# Altium schematic symbol library R0.SCHLIB: 92 symbols (part 2 of 2)
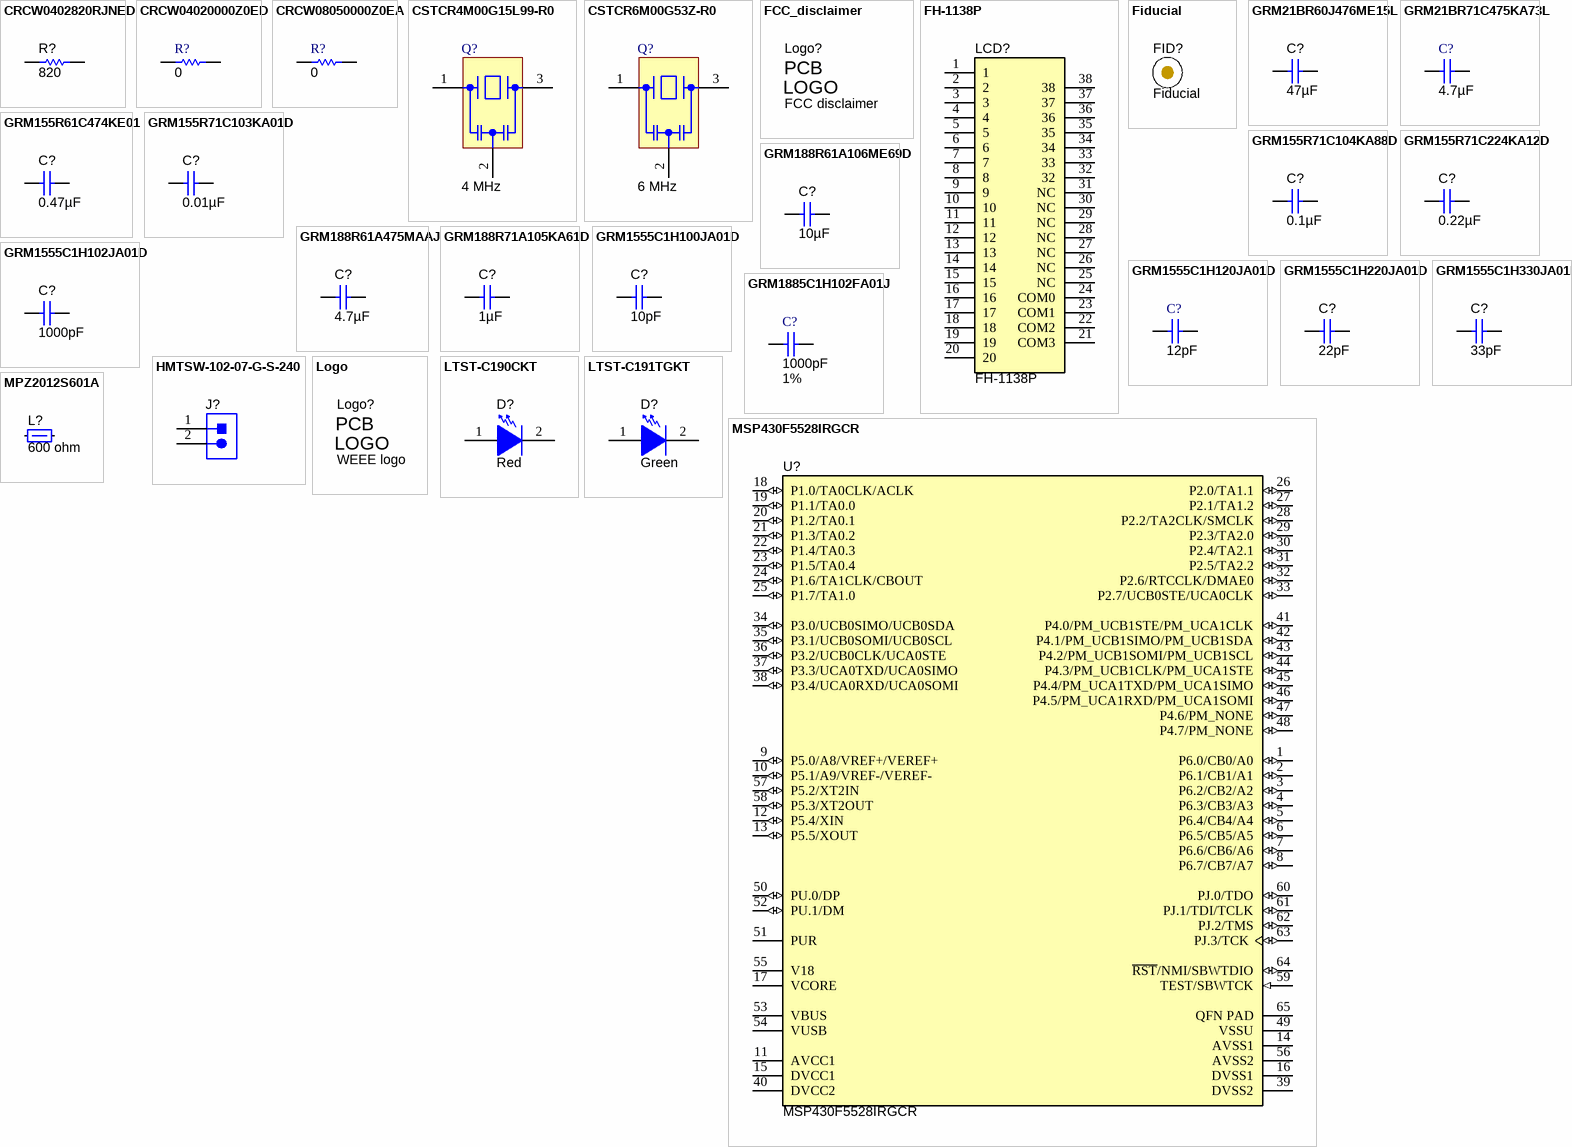
[diagram p4: symbols CRCW0402820RJNED to MSP430F5528IRGCR]

## GRM188R61A475MAAJ
designator C?  ValueDisplayed: 4.7µF  (hidden comment: GRM188R61A475MAAJ)
CAP, CERM, 4.7 µF, 10 V, +/- 20%, X5R, 0603; Manufacturer: MuRata; Polarized: N; CompType: Capacitor; Value: 4.7uF; U/M: EA; Cap_F: 0.0000047; Tolerance_%: 20; Value1: Unknown; VDC_V: 10; Value2: 10V; TaMin_C: -55; TaMax_C: 85; Cap_Case: 0603; AEC Category: Q200; SymbolVersion: 2008-07-09; PartNumber: GRM188R61A475MAAJ; PackageReference: 0603; RoHS: Y; MountType: SMT; Technology: Ceramic; TempCo: X5R; Published: 2008-06-19; Publisher: Texas Instruments; LatestRevisionDate: 2016-03-01; ComponentLink1Description: Datasheet link; ComponentLink1URL: http://psearch.en.murata.com/capacitor/product/GRM188R61A475MAAJ%23.pdf; AEC Qualified: N; AEC Grade: N/A
signal-integrity model Cap
simulation model Cap
footprint 0603
footprint 0603M
footprint 0603L
footprint 0603_HV
footprint 0603S
pins: 1, 2

## GRM188R71A105KA61D
designator C?  ValueDisplayed: 1µF  (hidden comment: GRM188R71A105KA61D)
CAP, CERM, 1 µF, 10 V, +/- 10%, X7R, 0603; Manufacturer: MuRata; Polarized: N; CompType: Capacitor; Value: 1uF; U/M: EA; Cap_F: 0.000001; Tolerance_%: 10; ESR_ohm: 0.011; Value1: 0.011 ohm; Value2: 10V; TaMin_C: -55; TaMax_C: 125; Cap_Case: 0603; SizeArea_mm2: 1.28; SizeAreaWB_mm2: 4.68; SizeX_mm: 1.6; SizeY_mm: 0.8; SizeZ_mm: 1; AEC Category: Q200; SymbolVersion: 2008-07-09; PartNumber: GRM188R71A105KA61D; PackageReference: 0603; RoHS: Y; VDC_V: 10; MountType: SMT; Technology: Ceramic; TempCo: X7R; Published: 2008-06-19; Publisher: Texas Instruments; LatestRevisionDate: 2016-05-21; ComponentLink1Description: Datasheet link; ComponentLink1URL: http://search.murata.co.jp/Ceramy/PnsearchViewAction.do?HnOFG=ON&HnNFG=ON&SEL_CNT=50&sLang=en&sKey=GRM188R71A105KA61D&x=9&y=9&search=startwith; Supplier 1: Digi-Key; Supplier Part Number 1: 490-3899-1-ND; Supplier 2: Mouser; Supplier Part Number 2: 81-GRM188R71A105KA1D; Supplier 3: Farnell; Supplier Part Number 3: 1845766; AEC Qualified: ?
signal-integrity model Cap
simulation model Cap
footprint 0603
footprint 0603M
footprint 0603L
footprint 0603_HV
footprint 0603S
pins: 1, 2

## GRM1555C1H100JA01D
designator C?  ValueDisplayed: 10pF  (hidden comment: GRM1555C1H100JA01D)
CAP, CERM, 10 pF, 50 V, +/- 5%, C0G/NP0, 0402; Manufacturer: MuRata; Polarized: N; CompType: Capacitor; Value: 10pF; U/M: EA; Cap_F: 0.00000000001; Tolerance_%: 5; Value1: Unknown; VDC_V: 50; Value2: 50V; TaMin_C: -55; TaMax_C: 125; Cap_Case: 0402; SymbolVersion: 2008-07-09; PartNumber: GRM1555C1H100JA01D; PackageReference: 0402; RoHS: Y; MountType: SMT; Technology: Ceramic; TempCo: C0G/NP0; Published: 2008-06-19; Publisher: Texas Instruments; LatestRevisionDate: 2014-07-30; ComponentLink1Description: Datasheet link; ComponentLink1URL: http://search.murata.co.jp/Ceramy/PnsearchViewAction.do?HnOFG=ON&HnNFG=ON&SEL_CNT=50&sLang=en&sKey=GRM1555C1H100JA01D&x=9&y=9&search=startwith; Supplier 1: Mouser; Supplier Part Number 1: 81-GRM1555C1H100JA1D
signal-integrity model Cap
simulation model Cap
footprint 0402
footprint 0402M
footprint 0402L
footprint 0402S
pins: 1, 2

## GRM1555C1H102JA01D
designator C?  ValueDisplayed: 1000pF  (hidden comment: GRM1555C1H102JA01D)
CAP, CERM, 1000 pF, 50 V, +/- 5%, C0G/NP0, 0402; Manufacturer: MuRata; Polarized: N; CompType: Capacitor; Value: 1000pF; U/M: EA; Cap_F: 0.000000001; Tolerance_%: 5; Value1: Unknown; VDC_V: 50; Value2: 50V; TaMin_C: -55; TaMax_C: 125; Cap_Case: 0402; SymbolVersion: 2008-07-09; PartNumber: GRM1555C1H102JA01D; PackageReference: 0402; RoHS: Y; MountType: SMT; Technology: Ceramic; TempCo: C0G/NP0; Published: 2008-06-19; Publisher: Texas Instruments; LatestRevisionDate: 2014-07-30; ComponentLink1Description: Datasheet link; ComponentLink1URL: http://search.murata.co.jp/Ceramy/PnsearchViewAction.do?HnOFG=ON&HnNFG=ON&SEL_CNT=50&sLang=en&sKey=GRM1555C1H102JA01D&x=9&y=9&search=startwith; Supplier 1: Digi-Key; Supplier Part Number 1: 490-3244-1-ND; Supplier 2: Mouser; Supplier Part Number 2: 81-GRM1555C1H102JA1D; Supplier 3: Farnell; Supplier Part Number 3: 8819556
signal-integrity model Cap
simulation model Cap
footprint 0402
footprint 0402M
footprint 0402L
footprint 0402S
pins: 1, 2

## GRM1555C1H120JA01D
designator C?  ValueDisplayed: 12pF  (hidden comment: GRM1555C1H120JA01D)
CAP, CERM, 12 pF, 50 V, +/- 5%, C0G/NP0, 0402; Manufacturer: MuRata; Value: 12pF; Polarized: N; CompType: Capacitor; U/M: EA; Cap_F: 0.000000000012; Tolerance_%: 5; Value1: Unknown; VDC_V: 50; Value2: 50V; TaMin_C: -55; TaMax_C: 125; Cap_Case: 0402; AEC Category: Q200; Published: 2008-06-19; LatestRevisionDate: 2016-04-09; PackageReference: 0402; Publisher: Texas Instruments; SymbolVersion: 2008-07-09; PartNumber: GRM1555C1H120JA01D; RoHS: Y; MountType: SMT; Technology: Ceramic; TempCo: C0G/NP0; ComponentLink1Description: Datasheet link; ComponentLink1URL: http://search.murata.co.jp/Ceramy/PnsearchViewAction.do?HnOFG=ON&HnNFG=ON&SEL_CNT=50&sLang=en&sKey=GRM1555C1H120JA01D&x=9&y=9&search=startwith; Supplier 1: Mouser; Supplier Part Number 1: 81-GRM1555C1H120JA1D; Supplier 2: Farnell; Supplier Part Number 2: 1828875; Supplier 3: Newark; Supplier Part Number 3: 14T3292; AEC Qualified: ?
signal-integrity model Cap
simulation model Cap
footprint 0402
footprint 0402M
footprint 0402L
footprint 0402S
pins: 1, 2

## GRM1555C1H220JA01D
designator C?  ValueDisplayed: 22pF  (hidden comment: GRM1555C1H220JA01D)
CAP, CERM, 22 pF, 50 V, +/- 5%, C0G/NP0, 0402; Manufacturer: MuRata; Polarized: N; CompType: Capacitor; Value: 22pF; U/M: EA; Cap_F: 0.000000000022; Tolerance_%: 5; Value1: Unknown; VDC_V: 50; Value2: 50V; TaMin_C: -55; TaMax_C: 125; Cap_Case: 0402; AEC Category: Q200; SymbolVersion: 2008-07-09; PartNumber: GRM1555C1H220JA01D; PackageReference: 0402; RoHS: Y; MountType: SMT; Technology: Ceramic; TempCo: C0G/NP0; Published: 2008-06-19; Publisher: Texas Instruments; LatestRevisionDate: 2016-03-01; ComponentLink1Description: Datasheet link; ComponentLink1URL: http://search.murata.co.jp/Ceramy/PnsearchViewAction.do?HnOFG=ON&HnNFG=ON&SEL_CNT=50&sLang=en&sKey=GRM1555C1H220JA01D&x=9&y=9&search=startwith; Supplier 1: Mouser; Supplier Part Number 1: 81-GRM1555C1H220JA1D; AEC Qualified: ?
signal-integrity model Cap
simulation model Cap
footprint 0402
footprint 0402M
footprint 0402L
footprint 0402S
pins: 1, 2

## GRM1555C1H330JA01D
designator C?  ValueDisplayed: 33pF  (hidden comment: GRM1555C1H330JA01D)
CAP, CERM, 33 pF, 50 V, +/-5%, C0G/NP0, 0402; Manufacturer: MuRata; Polarized: N; CompType: Capacitor; Value: 33pF; U/M: EA; Cap_F: 0.000000000033; Tolerance_%: 5; Value1: Unknown; VDC_V: 50; Value2: 50V; TaMin_C: -55; TaMax_C: 125; Cap_Case: 0402; SymbolVersion: 2008-07-09; PartNumber: GRM1555C1H330JA01D; PackageReference: 0402; RoHS: Y; MountType: SMT; Technology: Ceramic; TempCo: C0G/NP0; Published: 2008-06-19; Publisher: Texas Instruments; LatestRevisionDate: 2013-09-06; ComponentLink1Description: Datasheet link; ComponentLink1URL: http://search.murata.co.jp/Ceramy/PnsearchViewAction.do?HnOFG=ON&HnNFG=ON&SEL_CNT=50&sLang=en&sKey=GRM1555C1H330JA01D&x=9&y=9&search=startwith; Supplier 1: Mouser; Supplier Part Number 1: 81-GRM1555C1H330JA1D
signal-integrity model Cap
simulation model Cap
footprint 0402
footprint 0402M
footprint 0402L
footprint 0402S
pins: 1, 2

## GRM1885C1H102FA01J
designator C?  ValueDisplayed: 1000pF  Tolerance_%: 1%  (hidden comment: GRM1885C1H102FA01J)
CAP, CERM, 1000 pF, 50 V, +/- 1%, C0G/NP0, 0603; Manufacturer: MuRata; Value: 1000pF; Polarized: N; CompType: Capacitor; U/M: EA; Cap_F: 0.000000001; Value1: Unknown; VDC_V: 50; Value2: 50V; TaMin_C: -55; TaMax_C: 125; Cap_Case: 0603; AEC Category: Q200; Published: 2008-06-19; LatestRevisionDate: 2016-04-09; PackageReference: 0603; Publisher: Texas Instruments; SymbolVersion: 2008-07-09; PartNumber: GRM1885C1H102FA01J; RoHS: Y; MountType: SMT; Technology: Ceramic; TempCo: C0G/NP0; ComponentLink1Description: Datasheet link; ComponentLink1URL: http://search.murata.co.jp/Ceramy/image/img/A01X/G101/ENG/GRM1885C1H102FA01-01.pdf; Supplier 1: Digi-Key; Supplier Part Number 1: 490-6377-1-ND; Supplier 2: Mouser; Supplier Part Number 2: 81-GRM1885C1H102FA1J; AEC Qualified: ?
signal-integrity model Cap
simulation model Cap
footprint 0603
footprint 0603M
footprint 0603L
footprint 0603_HV
footprint 0603S
pins: 1, 2

## HMTSW-102-07-G-S-240
designator J?  (value not drawn)
Header, 100mil, 2x1, Gold, TH; Manufacturer: Samtec; SymbolCreator: a0412235; SymbolVersion: 2013-10-31; PartNumber: HMTSW-102-07-G-S-240; PackageReference: Header, 2.54mm, 2x1, TH; ClassName: Header; CompType: Header; RoHS: Y; MountType: TH; ComponentLink1Description: Datasheet URL; ComponentLink1URL: http://www.samtec.com/documents/webfiles/cpdf/HMTSW-XXX-XX-X-X-XXXX-XX-XX-MKT1.pdf; Publisher: Texas Instruments; LatestRevisionDate: 2016-12-09; Supplier 1: Digi-Key; Supplier Part Number 1: HMTSW-102-07-G-S-240-ND
footprint SAMTEC_HMTSW-102-07-G-S-240
pins: 1, 2
1 alternate drawing of the same symbol

## Logo
designator Logo?, comment WEEE logo  (no BOM)
Library Reference: WEEE logo; Lib Reference: WEEE logo; PartNumber: WEEE logo
footprint WEEE_Minimum (WEEElie bin)
text: PCB; LOGO

## LTST-C190CKT
designator D?  value Red  (hidden comment: LTST-C190CKT)
LED, Red, SMD; Manufacturer: Lite-On; Vf_V: 2; Value2: 2V; Io_A: 0.02; Tjmax_C: 85; Power_TotalModule: 0.0625; Value1: 0.0625W; U/M: EA; CompType: LED; PartNumber: LTST-C190CKT; SymbolVersion: 2008-12-08; MountType: SMT; RoHS: Y; PackageReference: Red LED, 1.6x0.8x0.8mm; Type: ?; Color: red; Published: 2008-07-11; Publisher: Texas Instruments; ComponentLink1URL: http://optoelectronics.liteon.com/en-us/api/DwonloadFileHandler.ashx?txtSpecNo=DS-22-98-0009&txtPartNo=LTST-C190CKT; ComponentLink1Description: Datasheet link; LatestRevisionDate: 2016-02-25; Supplier 1: Digi-Key; Supplier Part Number 1: 160-1181-1-ND; Supplier 2: Mouser; Supplier Part Number 2: 859-LTST-C190CKT
signal-integrity model Diode
footprint LED_LTST-C190_Red
pins: 1 A, 2 K

## LTST-C191TGKT
designator D?  value Green  (hidden comment: LTST-C191TGKT)
LED, Green, SMD; Manufacturer: Lite-On; Type: InGaN; Vf_V: 3.2; Value2: 3.2V; Io_A: 0.02; Value1: W; U/M: EA; CompType: LED; PartNumber: LTST-C191TGKT; SymbolVersion: 2008-12-08; MountType: SMT; RoHS: Y; PackageReference: LED_0603; Color: green; Published: 2008-07-11; Publisher: Texas Instruments; ComponentLink1URL: http://optoelectronics.liteon.com/upload/download/DS22-2000-300/S_110_LTST-C191TGKT.pdf; ComponentLink1Description: Datasheet link; LatestRevisionDate: 2016-04-10; Supplier 1: Digi-Key; Supplier Part Number 1: 160-1888-1-ND; Supplier 2: Mouser; Supplier Part Number 2: 859-LTST-C191TGKT
signal-integrity model Diode
footprint LTST-C191_Green
pins: 1 A, 2 K

## MPZ2012S601A
designator L?  value 600 ohm  (hidden comment: MPZ2012S601A)
Ferrite Bead, 600 ohm @ 100 MHz, 2 A, 0805; Manufacturer: TDK; Alternate PartNumber: MPZ2012S601AT000; Imax_A: 2; DCR_ohm: 0.1; Value1: 0.1 ohm; Value2: 2A; ZTyp@100MHz_Ohm: 600; CompType: Ferrite Bead; SymbolVersion: 2009-06-02; PartNumber: MPZ2012S601A; MountType: SMT; PackageReference: 0805; Published: 2014-04-30; Publisher: Texas Instruments; LatestRevisionDate: 2016-04-05; ComponentLink1Description: Datasheet link; ComponentLink1URL: http://www.tdk.co.jp/tefe02/e9413_mpz.pdf; RoHS: Y; Supplier 1: Digi-Key; Supplier Part Number 1: 445-2206-1-ND; Supplier 2: Mouser; Supplier Part Number 2: 810-MPZ2012S601A; Supplier 3: Farnell; Supplier Part Number 3: 1669753
footprint 0805_HV
footprint 0805_HV1
footprint 0805
footprint 0805M
footprint 0805L
pins: 1, 2

## MSP430F5528IRGCR
designator U?
Mixed Signal MicroController, RGC0064B; Manufacturer: Texas Instruments; Alternate PartNumber: MSP430F5528IRGCT; ADC: 12-bit SAR; ADC Channels: 16; Brown Out Reset: Yes; DMA: 3; Eco-Plan: Green (RoHS & no Sb/Br); Flash(KB): 128; Frequency(MHz): 25; GPIO: 47; Multiplier: 32x32; SRAM(B): 8192; SubFamily: 5 Series; Timers - 16-bit: 4; USB: 1; USCI_A (UART/LIN/IrDA/SPI): 2; SymbolCreator: Altium/a0412235; CompType: IC; U/M: EA; DatasheetVersion: SLAS590I; PackageVersion: 4204106/F; PackageReference: RGC0064B; PackageDescription: 64-Pin Plastic Flat Pack, Body 9 x 9 mm, Pitch 0.5 mm; Supplier 1: Digi-Key; Supplier Part Number 1: 296-27305-2-ND; Supplier 2: Digi-Key; Supplier Part Number 2: 296-27305-1-ND; Supplier 3: Digi-Key; Supplier Part Number 3: 296-27305-6-ND; Supplier 4: Newark; Supplier Part Number 4: 74R6473; Supplier 5: Mouser; Supplier Part Number 5: 595-MSP430F5527IPNR; Comparators: Yes; Real-Time Clock: Yes; SVS: Yes; Temp Sensor: Yes; USCI_B (I2C & SPI): 2; Watchdog: Yes; PartNumber: MSP430F5528IRGCR; ComponentLink1Description: Datasheet Link; ComponentLink1URL: http://www.ti.com/lit/ds/symlink/msp430f5528.pdf; SymbolVersion: 2016-1-28; MountType: SMT; RoHS: Y; Publisher: Texas Instruments; LatestRevisionDate: 2016-02-29; Alternate Manufacturer: Texas Instruments
footprint RGC0064B
footprint RGC0064B_NV
pins: 1 P6.0/CB0/A0 (io), 2 P6.1/CB1/A1 (io), 3 P6.2/CB2/A2 (io), 4 P6.3/CB3/A3 (io), 5 P6.4/CB4/A4 (io), 6 P6.5/CB5/A5 (io), 7 P6.6/CB6/A6 (io), 8 P6.7/CB7/A7 (io), 9 P5.0/A8/VREF+/VEREF+ (io), 10 P5.1/A9/VREF-/VEREF- (io), 11 AVCC1 (power) "Analog power supply", 12 P5.4/XIN (io), 13 P5.5/XOUT (io), 14 AVSS1 (power) "Analog ground supply", 15 DVCC1 (power) "Digital power supply", 16 DVSS1 (power) "Digital ground supply", 17 VCORE "Regulated core power supply output (internal use only, no external current loading)", 18 P1.0/TA0CLK/ACLK (io), 19 P1.1/TA0.0 (io), 20 P1.2/TA0.1 (io), 21 P1.3/TA0.2 (io), 22 P1.4/TA0.3 (io), 23 P1.5/TA0.4 (io), 24 P1.6/TA1CLK/CBOUT (io), 25 P1.7/TA1.0 (io), 26 P2.0/TA1.1 (io), 27 P2.1/TA1.2 (io), 28 P2.2/TA2CLK/SMCLK (io), 29 P2.3/TA2.0 (io), 30 P2.4/TA2.1 (io), 31 P2.5/TA2.2 (io), 32 P2.6/RTCCLK/DMAE0 (io), 33 P2.7/UCB0STE/UCA0CLK (io), 34 P3.0/UCB0SIMO/UCB0SDA (io), 35 P3.1/UCB0SOMI/UCB0SCL (io), 36 P3.2/UCB0CLK/UCA0STE (io), 37 P3.3/UCA0TXD/UCA0SIMO (io), 38 P3.4/UCA0RXD/UCA0SOMI (io), 39 DVSS2 (power) "Digital ground supply", 40 DVCC2 (power) "Digital power supply", 41 P4.0/PM_UCB1STE/PM_UCA1CLK (io), 42 P4.1/PM_UCB1SIMO/PM_UCB1SDA (io), 43 P4.2/PM_UCB1SOMI/PM_UCB1SCL (io), 44 P4.3/PM_UCB1CLK/PM_UCA1STE (io), 45 P4.4/PM_UCA1TXD/PM_UCA1SIMO (io), 46 P4.5/PM_UCA1RXD/PM_UCA1SOMI (io), 47 P4.6/PM_NONE (io), 48 P4.7/PM_NONE (io), 49 VSSU (power) "USB PHY ground supply", 50 PU.0/DP (io), 51 PUR "USB pullup resistor pin (open drain). The voltage level at the PUR pin is used to invoke the default USB BSL. Recommended 1-Mohm resistor to ground. See USB BSL for more information.", 52 PU.1/DM (io), 53 VBUS (power) "USB LDO input (connect to USB power source)", 54 VUSB (power) "USB LDO output", 55 V18 "USB regulated power (internal use only, no external current loading)", 56 AVSS2 (power) "Analog ground supply", 57 P5.2/XT2IN (io), 58 P5.3/XT2OUT (io), 59 TEST/SBWTCK (in), 60 PJ.0/TDO (io), 61 PJ.1/TDI/TCLK (io), 62 PJ.2/TMS (io), 63 PJ.3/TCK (io), 64 ~{RST}/NMI/SBWTDIO (io), 65 QFN PAD (power) "QFN package pad connection to VSS recommended."
1 alternate drawing of the same symbol

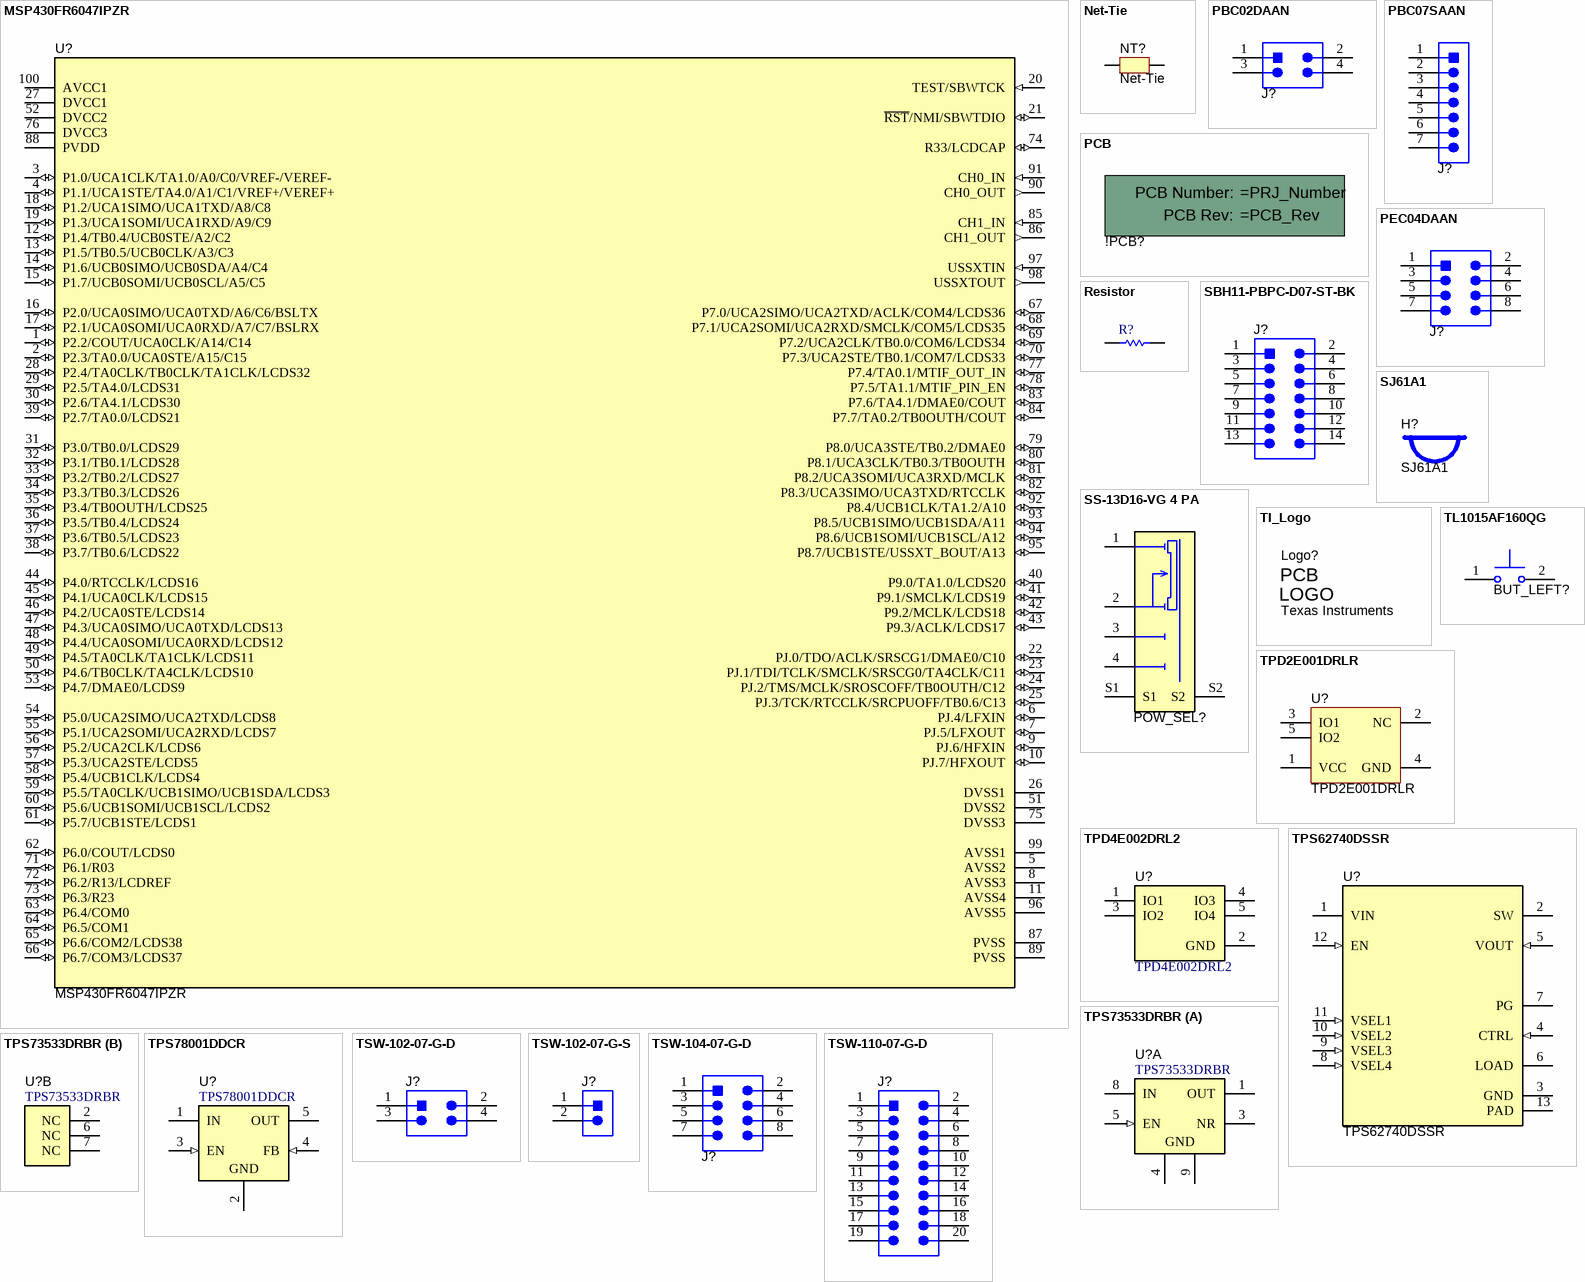
[diagram p2: symbols MSP430FR6047IPZR to TSW-110-07-G-D]

## MSP430FR6047IPZR
designator U?
Mixed-Signal Microcontroller, PZ0100A (LQFP-100); Manufacturer: Texas Instruments; SymbolCreator: Altium; SizeArea_mm2: 256; SizeAreaWB_mm2: 324; SizeX_mm: 16; SizeZ_mm: 1.6; CompType: IC; U/M: EA; SymbolVersion: 2016-11-29; PartNumber: MSP430FR6047IPZR; Alternate PartNumber: MSP430FR6047IPZ; PackageReference: PZ0100A; PackageDescription: LQFP-100; MountType: SMT; SizeY_mm: 16; ComponentLink1Description: Datasheet Link; ComponentLink1URL: https://sps06.itg.ti.com/sites/KMS/crossdivteams/altium/docs/ComponentDatasheets/SLASEB7_MSP430FR6047_Int.pdf; Publisher: Texas Instruments; LatestRevisionDate: 2016-11-30; Alternate Manufacturer: Texas Instruments
footprint PZ0100A_N
footprint PZ0100A_M
footprint PZ0100A_L
pins: 1 P2.2/COUT/UCA0CLK/A14/C14 (io), 2 P2.3/TA0.0/UCA0STE/A15/C15 (io), 3 P1.0/UCA1CLK/TA1.0/A0/C0/VREF-/VEREF- (io), 4 P1.1/UCA1STE/TA4.0/A1/C1/VREF+/VEREF+ (io), 5 AVSS2 (power), 6 PJ.4/LFXIN (io), 7 PJ.5/LFXOUT (io), 8 AVSS3 (power), 9 PJ.6/HFXIN (io), 10 PJ.7/HFXOUT (io), 11 AVSS4 (power), 12 P1.4/TB0.4/UCB0STE/A2/C2 (io), 13 P1.5/TB0.5/UCB0CLK/A3/C3 (io), 14 P1.6/UCB0SIMO/UCB0SDA/A4/C4 (io), 15 P1.7/UCB0SOMI/UCB0SCL/A5/C5 (io), 16 P2.0/UCA0SIMO/UCA0TXD/A6/C6/BSLTX (io), 17 P2.1/UCA0SOMI/UCA0RXD/A7/C7/BSLRX (io), 18 P1.2/UCA1SIMO/UCA1TXD/A8/C8 (io), 19 P1.3/UCA1SOMI/UCA1RXD/A9/C9 (io), 20 TEST/SBWTCK (in), 21 ~{RST}/NMI/SBWTDIO (io), 22 PJ.0/TDO/ACLK/SRSCG1/DMAE0/C10 (io), 23 PJ.1/TDI/TCLK/SMCLK/SRSCG0/TA4CLK/C11 (io), 24 PJ.2/TMS/MCLK/SROSCOFF/TB0OUTH/C12 (io), 25 PJ.3/TCK/RTCCLK/SRCPUOFF/TB0.6/C13 (io), 26 DVSS1 (power), 27 DVCC1 (power), 28 P2.4/TA0CLK/TB0CLK/TA1CLK/LCDS32 (io), 29 P2.5/TA4.0/LCDS31 (io), 30 P2.6/TA4.1/LCDS30 (io), 31 P3.0/TB0.0/LCDS29 (io), 32 P3.1/TB0.1/LCDS28 (io), 33 P3.2/TB0.2/LCDS27 (io), 34 P3.3/TB0.3/LCDS26 (io), 35 P3.4/TB0OUTH/LCDS25 (io), 36 P3.5/TB0.4/LCDS24 (io), 37 P3.6/TB0.5/LCDS23 (io), 38 P3.7/TB0.6/LCDS22 (io), 39 P2.7/TA0.0/LCDS21 (io), 40 P9.0/TA1.0/LCDS20 (io), 41 P9.1/SMCLK/LCDS19 (io), 42 P9.2/MCLK/LCDS18 (io), 43 P9.3/ACLK/LCDS17 (io), 44 P4.0/RTCCLK/LCDS16 (io), 45 P4.1/UCA0CLK/LCDS15 (io), 46 P4.2/UCA0STE/LCDS14 (io), 47 P4.3/UCA0SIMO/UCA0TXD/LCDS13 (io), 48 P4.4/UCA0SOMI/UCA0RXD/LCDS12 (io), 49 P4.5/TA0CLK/TA1CLK/LCDS11 (io), 50 P4.6/TB0CLK/TA4CLK/LCDS10 (io), 51 DVSS2 (power), 52 DVCC2 (power), 53 P4.7/DMAE0/LCDS9 (io), 54 P5.0/UCA2SIMO/UCA2TXD/LCDS8 (io), 55 P5.1/UCA2SOMI/UCA2RXD/LCDS7 (io), 56 P5.2/UCA2CLK/LCDS6 (io), 57 P5.3/UCA2STE/LCDS5 (io), 58 P5.4/UCB1CLK/LCDS4 (io), 59 P5.5/TA0CLK/UCB1SIMO/UCB1SDA/LCDS3 (io), 60 P5.6/UCB1SOMI/UCB1SCL/LCDS2 (io), 61 P5.7/UCB1STE/LCDS1 (io), 62 P6.0/COUT/LCDS0 (io), 63 P6.4/COM0 (io), 64 P6.5/COM1 (io), 65 P6.6/COM2/LCDS38 (io), 66 P6.7/COM3/LCDS37 (io), 67 P7.0/UCA2SIMO/UCA2TXD/ACLK/COM4/LCDS36 (io), 68 P7.1/UCA2SOMI/UCA2RXD/SMCLK/COM5/LCDS35 (io), 69 P7.2/UCA2CLK/TB0.0/COM6/LCDS34 (io), 70 P7.3/UCA2STE/TB0.1/COM7/LCDS33 (io), 71 P6.1/R03 (io), 72 P6.2/R13/LCDREF (io), 73 P6.3/R23 (io), 74 R33/LCDCAP (io), 75 DVSS3 (power), 76 DVCC3 (power), 77 P7.4/TA0.1/MTIF_OUT_IN (io), 78 P7.5/TA1.1/MTIF_PIN_EN (io), 79 P8.0/UCA3STE/TB0.2/DMAE0 (io), 80 P8.1/UCA3CLK/TB0.3/TB0OUTH (io), 81 P8.2/UCA3SOMI/UCA3RXD/MCLK (io), 82 P8.3/UCA3SIMO/UCA3TXD/RTCCLK (io), 83 P7.6/TA4.1/DMAE0/COUT (io), 84 P7.7/TA0.2/TB0OUTH/COUT (io), 85 CH1_IN (in), 86 CH1_OUT (out), 87 PVSS (power), 88 PVDD (power), 89 PVSS (power), 90 CH0_OUT (out), 91 CH0_IN (in), 92 P8.4/UCB1CLK/TA1.2/A10 (io), 93 P8.5/UCB1SIMO/UCB1SDA/A11 (io), 94 P8.6/UCB1SOMI/UCB1SCL/A12 (io), 95 P8.7/UCB1STE/USSXT_BOUT/A13 (io), 96 AVSS5 (power), 97 USSXTIN (in), 98 USSXTOUT (out), 99 AVSS1 (power), 100 AVCC1 (power)

## Net-Tie
designator NT?  (net tie, no BOM)
Single point connection between nets.; SymbolCreator: codlsc; SymbolVersion: 2009-07-01; MountType: SMT; PackageReference: N/A; Publisher: Texas Instruments; LatestRevisionDate: 2015-10-18; LatestRevisionNote: Added Alternate PartNumber and Alternate Manufacturer parameters to appropriate components.
footprint Net-Tie_10mil (10mil net tie, no solder mask opening, no solder paste)
footprint NetTie_1206 (1206 pads tied by 10mil copper trace which can be cut.  Part can be placed on pads.)
footprint Net-Tie_0805_HV
footprint NetTie_1206_NoOverlay (1206 pads tied by 10mil copper trace which can be cut.  Part can be placed on pads.)
footprint Net-Tie_0805_HV_NoOverlay (0805_HV pads tied by 10mil copper trace which can be cut.  An 0805 part can be placed on pads.)
footprint Net-Tie_10milWide_30milLong
footprint Net-Tie_20milWide_60milLong
footprint NetTie_0603
footprint NetTie_0402
footprint Net-Tie_50milWide_30milLong
pins: 1, 2

## PBC02DAAN
designator J?  (value not drawn)
Header, 2.54mm, 2x2, Gold, TH; Manufacturer: Sullins Connector Solutions; SymbolCreator: a0412235; Pitch_mm: 2.54; Gender: Male; Shrouded: N; Row_Count: 2; Current_A: 3; Voltage_V: 1800; Cert_UL: Y; SymbolVersion: 2013-10-31; PartNumber: PBC02DAAN; PackageReference: Header, 2.54mm, 2x2, TH; ClassName: Header; CompType: Header; RoHS: Y; MountType: TH; ComponentLink1Description: Datasheet URL; ComponentLink1URL: http://www.sullinscorp.com/catalogs/77_PAGE108-109_.100_MALE_HDR.pdf; Orientation: Vertical; PinCount: 4; RowSpacing_mm: 2.54; ContactFinish: Gold; Color: Black; Publisher: Texas Instruments; LatestRevisionDate: 2017-06-23; Supplier 1: Digi-Key; Supplier Part Number 1: S2011E-02-ND
footprint Sullins_PxC02DAAN
pins: 1, 2, 3, 4

## PBC07SAAN
designator J?  (value not drawn)
Header, 2.54 mm, 7x1, Gold, TH; Manufacturer: Sullins Connector Solutions; SymbolCreator: a0411947; Pitch_mm: 2.54; Gender: Male; Shrouded: N; Row_Count: 1; Current_A: 3; Voltage_V: 1800; Cert_UL: Y; SymbolVersion: 2013-12-22; PartNumber: PBC07SAAN; PackageReference: Header, 2.54 mm, 7x1, TH; ClassName: Header; CompType: Header; RoHS: Y; MountType: TH; ComponentLink1Description: Datasheet URL; ComponentLink1URL: http://www.sullinscorp.com/catalogs/77_PAGE108-109_.100_MALE_HDR.pdf; Orientation: Vertical; PinCount: 7; ContactFinish: Gold; Color: Black; Publisher: Texas Instruments; LatestRevisionDate: 2017-06-23; Supplier 1: Digi-Key; Supplier Part Number 1: S1011E-07-ND
footprint Sullins_xxC07SAAN
pins: 1, 2, 3, 4, 5, 6, 7

## PCB
designator !PCB?, comment Printed Circuit Board  (value not drawn)  (mechanical)
Manufacturer: Any; SymbolCreator: a0412235; CompType: PCB; SymbolVersion: 2012-05-30; PartNumber: =PRJ_Number; RoHS: O; MountType: N/A; Publisher: Texas Instruments; LatestRevisionDate: 2012-06-27; LatestRevisionNote: Initial Version; Alternate Manufacturer: -; Alternate PartNumber: -
1 alternate drawing of the same symbol
text: PCB Number:; PCB Rev:

## PEC04DAAN
designator J?  (value not drawn)
Header, 100mil, 4x2, Tin, TH; Manufacturer: Sullins Connector Solutions; SymbolCreator: a0411947; Pitch_mm: 2.54; Gender: Male; Shrouded: N; Row_Count: 2; Current_A: 3; Voltage_V: 1800; Cert_UL: Y; Green_Lifecycle: Not Set; Green_REACh: Incomplete; SymbolVersion: 2013-12-22; PartNumber: PEC04DAAN; PackageReference: Header, 4x2, 100mil, Tin; ClassName: Header; CompType: Header; RoHS: Y; MountType: TH; ComponentLink1Description: Datasheet URL; ComponentLink1URL: http://www.sullinscorp.com/catalogs/77_PAGE108-109_.100_MALE_HDR.pdf; Orientation: Vertical; PinCount: 8; RowSpacing_mm: 2.54; ContactFinish: Tin; Color: Black; Publisher: Texas Instruments; LatestRevisionDate: 2017-06-23; Supplier 1: Digi-Key; Supplier Part Number 1: S2012E-04-ND; Green_EU RoHS: Incomplete; Green_EU RoHS-2: Incomplete
footprint CONN_PEC04DAAN
pins: 1, 2, 3, 4, 5, 6, 7, 8

## Resistor
designator R?, comment Used in BOM report  (value not drawn)
RES, xxx ohm, x%, xW, [PackageReference]; CompType: Resistor; U/M: EA; LatestRevisionDate: 2015-10-18; PackageReference: Used in PnP output and some BOM reports; Publisher: Texas Instruments; SymbolVersion: 2009-05-29; PartNumber: Used in BOM report; Manufacturer: Used in BOM report; RoHS: Used in BOM report.  Use Y or N.; MountType: SMT or TH (used in PnP report); ComponentLink1Description: Datasheet Link; ComponentLink1URL: Paste URL for datasheet here; Alternate Manufacturer: -; Alternate PartNumber: -; LatestRevisionNote: Added Alternate PartNumber and Alternate Manufacturer parameters to appropriate components.
signal-integrity model Resistor
simulation model Resistor
footprint TBD
footprint 0201
footprint 0402
footprint 0603
footprint 0603_HV
footprint 0805
footprint 0805_HV
footprint 1206
footprint 1210
footprint 1812
footprint 2010
footprint 2512
footprint 0402S
pins: 1, 2

## SBH11-PBPC-D07-ST-BK
designator J?  (value not drawn)
Header (shrouded), 100 mil, 7x2, Gold, TH; Manufacturer: Sullins Connector Solutions; SymbolCreator: a0412235; SymbolVersion: 2013-12-22; PartNumber: SBH11-PBPC-D07-ST-BK; PackageReference: 7x2 Shrouded Header; CompType: Header; RoHS: Y; MountType: TH; ComponentLink1Description: Datasheet URL; ComponentLink1URL: http://www.sullinscorp.com/catalogs/145_11_SERIES,_.100_BOX_HEADER.pdf; Publisher: Texas Instruments; LatestRevisionDate: 2016-02-29; Supplier 1: Digi-Key; Supplier Part Number 1: S9170-ND
footprint CONN_SBH11-PBPC-D07-ST-BK
pins: 1, 2, 3, 4, 5, 6, 7, 8, 9, 10, 11, 12, 13, 14

## SJ61A1
designator H?
Bumpon, Cylindrical, 0.312 X 0.200, Black; Manufacturer: 3M; SymbolCreator: a0412235; Green_Lifecycle: Not Set; Green_REACh: Incomplete; SymbolVersion: 2012-03-04; CompType: Bumpon; PartNumber: SJ61A1; RoHS: Y; PackageReference: Black Bumpon; MountType: N/A; ComponentLink1Description: Datasheet Link; ComponentLink1URL: http://multimedia.3m.com/mws/mediawebserver?mwsId=66666UF6EVsSyXTtOxTXoxMtEVtQEVs6EVs6EVs6E666666--&fn=SJxxA1.pdf; Publisher: Texas Instruments; LatestRevisionDate: 2017-06-22; Supplier 1: Digi-Key; Supplier Part Number 1: SJ5746-0-ND; Supplier 2: Mouser; Supplier Part Number 2: 517-SJ-61A1; Green_EU RoHS: Incomplete; Green_EU RoHS-2: Incomplete
footprint Bumpon_SJ61A1

## SS-13D16-VG 4 PA
designator POW_SEL?  (value not drawn)
Switch, Slide, SP3T, On-On-On, 3 Pos, 0.3A, 30 VDC, TH; Manufacturer: C&K Components; SymbolCreator: Altium; VDC_V: 30; PositionCount: 3; CurrentRating_mA: 300; SymbolVersion: 2016-03-31; PartNumber: SS-13D16-VG 4 PA; MountType: TH; ComponentLink1Description: Datasheet Link; ComponentLink1URL: http://www.ck-components.com/80748/ss.pdf/; RoHS: Y; Circuit: SP3T; SwitchFunction: On-On-On; Orientation: Top Actuated; CompType: Switch; PackageReference: 12.6x4.3mm; Publisher: Texas Instruments; LatestRevisionDate: 2016-04-06; Supplier 1: Digi-Key; Supplier Part Number 1: CKN10371-ND; Supplier 2: Mouser; Supplier Part Number 2: 611-SS-13D16-VG4PA
footprint SW_SS-13D16-VG
pins: 1, 2, 3, 4, S1, S2

## TI_Logo
designator Logo?, comment Texas Instruments  (no BOM)
Texas Instrument Corporate Signature; SymbolCreator: codlsc; SymbolVersion: 2011-08-22; Published: 2009-03-03; Publisher: National Semiconductor; ClassName: Logo; LatestRevisionDate: 2011-10-25; LatestRevisionNote: Added ClassName of Logo.
footprint TI_Stacked_SolderMask_Medium
footprint TI_Stacked_SolderMask_Small
footprint TI_Stacked_Overlay_Medium
footprint TI_Stacked_Overlay_Small
footprint TI_Horizontal_SolderMask_Medium
footprint TI_Horizontal_SolderMask_Small
footprint TI_Horizontal_Overlay_Medium
footprint TI_Horizontal_Overlay_Small
footprint TI_Symbol_SolderMask_Small
footprint TI_Symbol_Overlay_Medium
footprint TI_Symbol_Overlay_Small
footprint TI_Symbol_SolderMask_Medium
text: PCB; LOGO

## TL1015AF160QG
designator BUT_LEFT?  (value not drawn)
Switch, Tactile, SPST-NO, 0.05A, 12V, SMT; Manufacturer: E-Switch; SymbolCreator: a0412235; VDC_V: 12; SwitchFunction: Off-Mom; PositionCount: 1; CurrentRating_mA: 50; SymbolVersion: 2012-10-29; MountType: SMT; RoHS: Y; PartNumber: TL1015AF160QG; PackageReference: Switch, 4.4x2x2.9 mm; ComponentLink1Description: Datasheet URL; ComponentLink1URL: http://spec.e-switch.com/P-J/P420000.pdf; CompType: Switch; Circuit: SPST-NO; Orientation: Top Actuated; Publisher: Texas Instruments; LatestRevisionDate: 2016-05-24; Supplier 1: Digi-Key; Supplier Part Number 1: EG4344CT-ND; Supplier 2: Mouser; Supplier Part Number 2: 612-TL1015AF; Supplier 3: Farnell; Supplier Part Number 3: 2292962
footprint SW_TL1015AF160QG
pins: 1, 2

## TPD2E001DRLR
designator U?
Low-Capacitance + / - 15 kV ESD-Protection Array for High-Speed Data Interfaces, 2 Channels, -40 to +85 degC, 5-pin SOT (DRL), Green (RoHS & no Sb/Br); Manufacturer: Texas Instruments; Alternate Manufacturer: None; Alternate PartNumber: Equivalent; Breakdown Voltage(Min)(V): 11; IEC 61000-4-2 Air-Gap(+/- kV): 15; IEC 61000-4-2 Contact(+/- kV): 8; IO Capacitance(Typ)(pF): 1.5; IO Leakage Current(nA): 1; SubFamily: ESD Solution; USB High Speed: TRUE; DatasheetVersion: SLLS684F; PackageVersion: revD, Aug-2007; PackageReference: DRL0005A; PackageDescription: 5-Pin Plastic Small Outline, Flat Lead 0.5 mm Pitch; Supplier 1: Digi-Key; Supplier Part Number 1: 296-21883-2-ND; Supplier 2: Digi-Key; Supplier Part Number 2: 296-21883-1-ND; Supplier 3: Digi-Key; Supplier Part Number 3: 296-21883-6-ND; Supplier 4: Farnell; Supplier Part Number 4: 1412055; Supplier 5: Newark; Supplier Part Number 5: 41M5840; Supplier 6: Mouser; Supplier Part Number 6: 595-TPD2E001DRLR; Eco-Plan: Green (RoHS & no Sb/Br); MountType: SMT; PartNumber: TPD2E001DRLR; ComponentLink1Description: Datasheet; ComponentLink1URL: http://www.ti.com/general/docs/lit/getliterature.tsp?genericPartNumber=TPD2E001&fileType=pdf; ComponentLink2Description: URL Link1; ComponentLink2URL: SamplesURL:http://www.ti.com/product/tpd2e001#samples
footprint DRL0005A (SOTFL, 5-Flat Leads, Body 1.2x1.6x0.6mm, Pitch 0.5mm, TI Recommended)
footprint DRL0005A_N (SOTFL, 5-Flat Leads, Body 1.2x1.6x0.6mm, Pitch 0.5mm, IPC Medium Density)
footprint DRL0005A_L (SOTFL, 5-Flat Leads, Body 1.2x1.6x0.6mm, Pitch 0.5mm, IPC High Density)
footprint DRL0005A_M (SOTFL, 5-Flat Leads, Body 1.2x1.6x0.6mm, Pitch 0.5mm, IPC Low Density)
pins: 1 VCC (power) "Power-supply input. Bypass VCC to GND with a 0.1-uF ceramic capacitor.", 2 NC "No connection. Not internally connected.", 3 IO1 "ESD-protected channel", 4 GND (power) "Ground", 5 IO2 "ESD-protected channel"

## TPD4E002DRL2
designator U?
Low-Capacitance Array with + / - 15 kV ESD Protection, 4 Channels, -40 to +85 degC, 5-pin SOT (DRL), Green (RoHS & no Sb/Br); Manufacturer: Texas Instruments; Alternate PartNumber: Equivalent; Breakdown Voltage(Min)(V): 6; IEC 61000-4-2 Air-Gap(+/- kV): 15; IO Capacitance(Typ)(pF): 11; IO Leakage Current(nA): 100; SubFamily: ESD Solution; DatasheetVersion: SLVS615D; PackageVersion: revD, Aug-2007; PackageReference: DRL0005A; PackageDescription: 5-Pin Plastic Small Outline, Flat Lead 0.5 mm Pitch; Supplier 1: Digi-Key; Supplier Part Number 1: 296-25866-2-ND; Supplier 2: Digi-Key; Supplier Part Number 2: 296-25866-1-ND; Supplier 3: Digi-Key; Supplier Part Number 3: 296-25866-6-ND; Supplier 4: Newark; Supplier Part Number 4: 69R0434; Supplier 5: Mouser; Supplier Part Number 5: 595-TPD4E002DRL2; Eco-Plan: Green (RoHS & no Sb/Br); IEC 61000-4-2 Contact(+/- kV): 15; MountType: SMT; PartNumber: TPD4E002DRL2; ComponentLink1Description: Datasheet; ComponentLink1URL: http://www.ti.com/general/docs/lit/getliterature.tsp?genericPartNumber=TPD4E002&fileType=pdf; ComponentLink2Description: URL Link1; ComponentLink2URL: SamplesURL:http://www.ti.com/product/tpd4e002#samples; Alternate Manufacturer: Texas Instruments
footprint DRL0005A (SOTFL, 5-Flat Leads, Body 1.2x1.6x0.6mm, Pitch 0.5mm, TI recommended)
pins: 1 IO1, 2 GND (power), 3 IO2, 4 IO3, 5 IO4

## TPS62740DSSR
designator U?
360nA IQ Step Down Converter for Low Power Applications, DSS0012A; Alternate PartNumber: TPS62740DSST; Manufacturer: Texas Instruments; SymbolCreator: Altium; SizeArea_mm2: 6; SizeAreaWB_mm2: 12; SizeX_mm: 3; SizeY_mm: 2; SizeZ_mm: 0.8; CompType: IC; U/M: EA; SymbolVersion: 2016-3-1; PartNumber: TPS62740DSSR; PackageReference: DSS0012A; PackageDescription: WSON-12; MountType: SMT; ComponentLink1Description: Datasheet Link; ComponentLink1URL: http://www.ti.com/lit/ds/symlink/tps62740.pdf; RoHS: Y; Publisher: Texas Instruments; LatestRevisionDate: 2016-05-19; Alternate Manufacturer: Texas Instruments
footprint DSS0012A
pins: 1 VIN (power), 2 SW (power), 3 GND (power), 4 CTRL (in), 5 VOUT (in), 6 LOAD (power), 7 PG (oc), 8 VSEL4 (in), 9 VSEL3 (in), 10 VSEL2 (in), 11 VSEL1 (in), 12 EN (in), 13 PAD (power)

## TPS73533DRBR
designator U?
Single Output High PSRR LDO, 500 mA, Fixed 3.3 V Output, 2.7 to 6.5 V Input, with Low IQ, 8-pin SON (DRB), -40 to 125 degC, Green (RoHS & no Sb/Br); Manufacturer: Texas Instruments; Alternate PartNumber: Equivalent; Accuracy(%): 2; Fixed Output Options(V): 3.3; Iout(Max)(A): 0.5; Iq(Typ)(mA): 0.04; SubFamily: Single Channel LDO; Vdo(Typ)(mV): 280; Vin(Max)(V): 6.5; Vin(Min)(V): 2.7; DatasheetVersion: SBVS087J; PackageVersion: 4203482-2/K; PackageReference: DRB0008A; PackageDescription: 8-Pin Plastic Small Outline, Body 3 x 3 mm, Pitch 0.65 mm; Supplier 1: Digi-Key; Supplier Part Number 1: TPS73533DRBR-ND; Supplier 2: Newark; Supplier Part Number 2: 25R0145; Supplier 3: Mouser; Supplier Part Number 3: 595-TPS73533DRBR; PartNumber: TPS73533DRBR; ComponentLink1Description: Manufacturer URL; ComponentLink1URL: http://www.ti.com/; ComponentLink2Description: Datasheet; ComponentLink2URL: http://www.ti.com/general/docs/lit/getliterature.tsp?genericPartNumber=TPS73533&fileType=pdf; ComponentLink3Description: Package Specification; ComponentLink3URL: http://www.ti.com/litv/pdf/mpds118h; Eco-Plan: Green (RoHS & no Sb/Br); Vout Adj(Max)(V): 3.3; Vout Adj(Min)(V): 3.3; MountType: SMT; Alternate Manufacturer: Texas Instruments
footprint DRB0008A (SON, 8-Leads, Body 3x3mm, Pitch 0.65mm, Thermal Pad 1.50 x 3.8mm)
part A pins: 1 OUT (power) "Output of the regulator. A small capacitor (total typical capacitance = 2.0uF ceramic) is needed from this pin to ground to assure stability.", 3 NR "Fixed voltage versions only; connecting an external capacitor to this pin bypasses noise generated by the internal bandgap. This allows output noise to be reduced to very low levels.", 4 GND (power) "Ground", 5 EN (in) "Driving the enable pin (EN) high turns on the regulator. Driving this pin low puts the regulator into shutdown mode. EN can be connected to IN if not used.", 8 IN (power) "Input supply.", 9 GND (power) "The pad must be tied to GND."
part B pins: 2 NC "Not internally connected. This pin must either be left open, or tied to GND.", 6 NC "Not internally connected. This pin must either be left open, or tied to GND.", 7 NC "Not internally connected. This pin must either be left open, or tied to GND."

## TPS78001DDCR
designator U?
Single Output LDO, 150 mA, Adjustable 1.22 to 5.25 V Output, 2.2 to 5.5 V Input, with 500 nA Quiescent Current, 5-pin SOT (DDC), -40 to 125 degC, Green (RoHS & no Sb/Br); Manufacturer: Texas Instruments; Alternate PartNumber: Equivalent; Accuracy(%): 3; Dynamic Voltage Scaling: TRUE; Iout(Max)(A): 0.15; Iq(Typ)(mA): 0.0005; SubFamily: Single Channel LDO; Vdo(Typ)(mV): 200; Vin(Max)(V): 5.5; Vin(Min)(V): 2.2; Vout Adj(Max)(V): 5.25; Vout Adj(Min)(V): 1.22; DatasheetVersion: SBVS083D; PackageVersion: 4204403-2/E; PackageReference: DDC0005A; PackageDescription: 5-Pin Plastic Small Outline, Body 2.9 x 1.6 mm, 0.95 mm Pitch; Supplier 1: Digi-Key; Supplier Part Number 1: 296-23331-2-ND; Supplier 2: Digi-Key; Supplier Part Number 2: 296-23331-1-ND; Supplier 3: Digi-Key; Supplier Part Number 3: 296-23331-6-ND; Supplier 4: Newark; Supplier Part Number 4: 95M0131; Supplier 5: Mouser; Supplier Part Number 5: 595-TPS78001DDCR; Eco-Plan: Green (RoHS & no Sb/Br); MountType: SMT; Code_JEDEC: MO-193; PartNumber: TPS78001DDCR; ComponentLink1Description: Manufacturer URL; ComponentLink1URL: http://www.ti.com/; ComponentLink2Description: Datasheet; ComponentLink2URL: http://www.ti.com/general/docs/lit/getliterature.tsp?genericPartNumber=TPS78001&fileType=pdf; ComponentLink3Description: Package Specification; ComponentLink3URL: http://www.ti.com/litv/pdf/mpds123d; Alternate Manufacturer: Texas Instruments
footprint DDC0005A_N (SOT23, 5-Leads, Body 2.9x1.6mm, Pitch 0.95mm, IPC Medium Density)
footprint DDC0005A_L (SOT23, 5-Leads, Body 2.9x1.6mm, Pitch 0.95mm, IPC High Density)
footprint DDC0005A_M (SOT23, 5-Leads, Body 2.9x1.6mm, Pitch 0.95mm, IPC Low Density)
pins: 1 IN (power) "Input pin. A small capacitor is needed from this pin to ground to assure stability. Typical input capacitor = 1.0uF. Both input and output capacitor grounds should be tied back to the IC ground with no significant impedance (See Datasheet)", 2 GND (power) "Ground pin.", 3 EN (in) "Driving the enable pin (EN) over 1.2V turns on the regulator. Driving this pin below 0.4V puts the regulator into shutdown mode, reducing operating current to 18nA typical.", 4 FB (in) "Feedback pin (FB) for adjustable versions", 5 OUT (power) "Regulated output voltage pin. A small 1-uF ceramic capacitor is needed from this pin to ground to assure stability.See Input and Output Capacitor Requirements in the Application Information section for more details."

## TSW-102-07-G-D
designator J?  (value not drawn)
Header, 100mil, 2x2, Gold, TH; Manufacturer: Samtec; SymbolCreator: a0412235; Pitch_mm: 2.54; Gender: Male; Shrouded: N; Row_Count: 2; Current_A: 6.3; Voltage_V: 550; Cert_CSA: Y; SymbolVersion: 2013-10-31; PartNumber: TSW-102-07-G-D; PackageReference: 2x2 Header; ClassName: Header; CompType: Header; RoHS: Y; MountType: TH; ComponentLink1Description: Datasheet URL; ComponentLink1URL: http://samtec.com/ftppub/pdf/TSW_TH.PDF; Orientation: Vertical; PinCount: 4; RowSpacing_mm: 2.54; ContactFinish: Gold; Color: Black; Cert_UL: Y; Cert_CULUS: N; Cert_VDE: N; Publisher: Texas Instruments; LatestRevisionDate: 2016-04-11; Supplier 1: Digi-Key; Supplier Part Number 1: SAM1028-02-ND
footprint TSW-102-07-G-D
pins: 1, 2, 3, 4

## TSW-102-07-G-S
designator J?  (value not drawn)
Header, 100mil, 2x1, Gold, TH; Manufacturer: Samtec; SymbolCreator: a0412235; Pitch_mm: 2.54; Gender: Male; Shrouded: N; Row_Count: 1; Current_A: 6.3; Voltage_V: 550; Cert_CSA: Y; SymbolVersion: 2013-10-31; PartNumber: TSW-102-07-G-S; PackageReference: 2x1 Header; ClassName: Header; CompType: Header; RoHS: Y; MountType: TH; ComponentLink1Description: Datasheet URL; ComponentLink1URL: http://samtec.com/ftppub/pdf/TSW_TH.PDF; Orientation: Vertical; PinCount: 2; ContactFinish: Gold; Color: Black; Cert_UL: Y; Cert_CULUS: N; Cert_VDE: N; Publisher: Texas Instruments; LatestRevisionDate: 2016-04-11; Supplier 1: Digi-Key; Supplier Part Number 1: SAM1029-02-ND
footprint TSW-102-07-G-S
footprint TSW-102-07-X-S
pins: 1, 2
1 alternate drawing of the same symbol

## TSW-104-07-G-D
designator J?  (value not drawn)
Header, 100mil, 4x2, Gold, TH; Manufacturer: Samtec; SymbolCreator: a0411947; Pitch_mm: 2.54; Gender: Male; Shrouded: N; Row_Count: 2; Current_A: 6.3; Voltage_V: 550; Cert_CSA: Y; SymbolVersion: 2013-12-22; PartNumber: TSW-104-07-G-D; PackageReference: 4x2 Header; ClassName: Header; CompType: Header; RoHS: Y; MountType: TH; ComponentLink1Description: Datasheet URL; ComponentLink1URL: http://samtec.com/ftppub/pdf/TSW_TH.PDF; Orientation: Vertical; PinCount: 8; RowSpacing_mm: 2.54; ContactFinish: Gold; Color: Black; Cert_UL: Y; Cert_CULUS: N; Cert_VDE: N; Publisher: Texas Instruments; LatestRevisionDate: 2016-12-09; Supplier 1: Digi-Key; Supplier Part Number 1: SAM1028-04-ND
footprint TSW-104-07-G-D
pins: 1, 2, 3, 4, 5, 6, 7, 8

## TSW-110-07-G-D
designator J?  (value not drawn)
Header, 100mil, 10x2, Gold, TH; Manufacturer: Samtec; SymbolCreator: a0412235; Pitch_mm: 2.54; Gender: Male; Shrouded: N; Row_Count: 2; Current_A: 6.3; Voltage_V: 550; Cert_CSA: Y; SymbolVersion: 2013-09-12; PartNumber: TSW-110-07-G-D; PackageReference: 10x2 Header; ClassName: Header; CompType: Header; RoHS: Y; MountType: TH; ComponentLink1Description: Datasheet URL; ComponentLink1URL: http://samtec.com/ftppub/pdf/TSW_TH.PDF; Orientation: Vertical; PinCount: 20; RowSpacing_mm: 2.54; ContactFinish: Gold; Color: Black; Cert_UL: Y; Cert_CULUS: N; Cert_VDE: N; Publisher: Texas Instruments; LatestRevisionDate: 2016-12-09; Supplier 1: Digi-Key; Supplier Part Number 1: SAM1028-10-ND
footprint TSW-110-07-G-D
pins: 1, 2, 3, 4, 5, 6, 7, 8, 9, 10, 11, 12, 13, 14, 15, 16, 17, 18, 19, 20

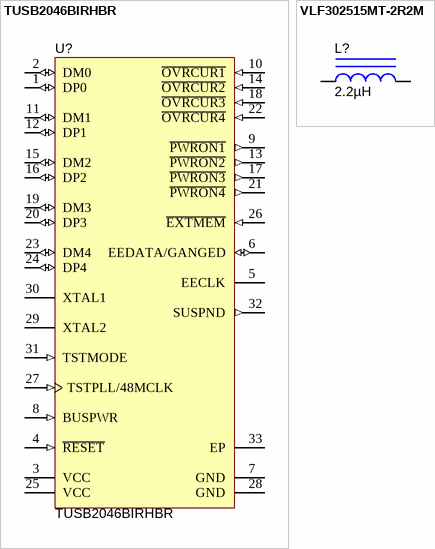
[diagram p3: symbols TUSB2046BIRHBR to VLF302515MT-2R2M]

## TUSB2046BIRHBR
designator U?
4-Port Full-Speed USB Hub, 3.3V, -40 to 85 degC, 32-Pin QFN (RHB), Green (RoHS & no Sb/Br); Manufacturer: Texas Instruments; Alternate Manufacturer: None; Alternate PartNumber: Equivalent; SubFamily: USB Hub Controller; USB Speed: Full; USB Full Speed: True; Supply Voltage(s)(V): 3.3; DatasheetVersion: SLLS413H; PackageVersion: revD, Jun-2011; PackageReference: RHB0032E; PackageDescription: 32-Pin Plastic Quad Flat No-Lead, 5 x 5 mm Body, 0.5 mm Pitch, 3.45 x 3.45 mm Exposed Pad; Supplier 1: Digi-Key; Supplier Part Number 1: 296-21926-2-ND; Supplier 2: Digi-Key; Supplier Part Number 2: 296-21926-1-ND; Supplier 3: Digi-Key; Supplier Part Number 3: 296-21926-6-ND; Supplier 4: Newark; Supplier Part Number 4: 46M1363; Supplier 5: Mouser; Supplier Part Number 5: 595-TUSB2046BIRHBR; PartNumber: TUSB2046BIRHBR; MountType: SMT; Eco-Plan: Green (RoHS & no Sb/Br); Integrated MCU Architecture: N/A; Code_JEDEC: MO-220; ComponentLink1Description: Datasheet; ComponentLink1URL: http://www.ti.com/general/docs/lit/getliterature.tsp?genericPartNumber=TUSB2046B&fileType=pdf
footprint RHB0032E (QFN, 32-Leads, Body 5x5mm, Pitch 0.5mm, Thermal Pad 3.45x3.45mm, TI Recommended)
pins: 1 DP0 (io) "Root port USB differential data plus. DP0 paired with DM0 constitutes the upstream USB port.", 2 DM0 (io) "Root port USB differential data minus. DM0 paired with DP0 constitutes the upstream USB port.", 3 VCC (power) "3.3-V supply voltage", 4 ~{RESET} (in) "R\E\S\E\T\ is an active low TTL input with hysteresis and must be asserted at power up. When R\E\S\E\T\ is asserted, all logic is initialized. Generally, a reset with a pulse width between 100 us and 1 ms is recommended (See Datasheet)", 5 EECLK (hiz) "EEPROM serial clock. When E\X\T\M\E\M\ is high, the EEPROM interface is disabled. The EECLK terminal is disabled and must be left floating (unconnected). When E\X\T\M\E\M\ is low, EECLK acts as a 3-state serial clock output (See Datasheet)", 6 EEDATA/GANGED (io) "EEPROM serial data/power-management mode indicator. When E\X\T\M\E\M\ is high, EEDATA/GANGED selects between ganged or per-port power overcurrent detection for the downstream ports. When E\X\T\M\E\M\ is low, EEDATA/GANGED (See Datasheet)", 7 GND (power) "GND terminals must be tied to ground for proper operation.", 8 BUSPWR (in) "Power source indicator. BUSPWR is an active-high input that indicates whether the downstream ports source their power from the USB cable or a local power supply. For the bus-power mode, this terminal must be pulled to 3.3 V, (See Datasheet)", 9 ~{PWRON1} (out) "Power-on/-off control signals. P\W\R\O\N\1\-P\W\R\O\N\4\ are active low, push-pull outputs. Push-pull outputs eliminate the pullup resistors which open-drain outputs require. However, the external power switches that connect (See Datasheet)", 10 ~{OVRCUR1} (in) "Overcurrent input. O\V\R\C\U\R\1\-O\V\R\C\U\R\4\are active low. For per-port overcurrent detection, one overcurrent input is available for each of the four downstream ports. In the ganged mode, any O\V\R\C\U\R\ input may be (See Datasheet)", 11 DM1 (io) "USB differential data minus. DM1-DM4 paired with DP1-DP4 support up to four downstream USB ports.", 12 DP1 (io) "USB differential data plus. DP1-DP4 paired with DM1-DM4 support up to four downstream USB ports.", 13 ~{PWRON2} (out) "Power-on/-off control signals. P\W\R\O\N\1\-P\W\R\O\N\4\ are active low, push-pull outputs. Push-pull outputs eliminate the pullup resistors which open-drain outputs require. However, the external power switches that connect (See Datasheet)", 14 ~{OVRCUR2} (in) "Overcurrent input. O\V\R\C\U\R\1\-O\V\R\C\U\R\4\are active low. For per-port overcurrent detection, one overcurrent input is available for each of the four downstream ports. In the ganged mode, any O\V\R\C\U\R\ input may be (See Datasheet)", 15 DM2 (io) "USB differential data minus. DM1-DM4 paired with DP1-DP4 support up to four downstream USB ports.", 16 DP2 (io) "USB differential data plus. DP1-DP4 paired with DM1-DM4 support up to four downstream USB ports.", 17 ~{PWRON3} (out) "Power-on/-off control signals. P\W\R\O\N\1\-P\W\R\O\N\4\ are active low, push-pull outputs. Push-pull outputs eliminate the pullup resistors which open-drain outputs require. However, the external power switches that connect (See Datasheet)", 18 ~{OVRCUR3} (in) "Overcurrent input. O\V\R\C\U\R\1\-O\V\R\C\U\R\4\are active low. For per-port overcurrent detection, one overcurrent input is available for each of the four downstream ports. In the ganged mode, any O\V\R\C\U\R\ input may be (See Datasheet)", 19 DM3 (io) "USB differential data minus. DM1-DM4 paired with DP1-DP4 support up to four downstream USB ports.", 20 DP3 (io) "USB differential data plus. DP1-DP4 paired with DM1-DM4 support up to four downstream USB ports.", 21 ~{PWRON4} (out) "Power-on/-off control signals. P\W\R\O\N\1\-P\W\R\O\N\4\ are active low, push-pull outputs. Push-pull outputs eliminate the pullup resistors which open-drain outputs require. However, the external power switches that connect (See Datasheet)", 22 ~{OVRCUR4} (in) "Overcurrent input. O\V\R\C\U\R\1\-O\V\R\C\U\R\4\are active low. For per-port overcurrent detection, one overcurrent input is available for each of the four downstream ports. In the ganged mode, any O\V\R\C\U\R\ input may be (See Datasheet)", 23 DM4 (io) "USB differential data minus. DM1-DM4 paired with DP1-DP4 support up to four downstream USB ports.", 24 DP4 (io) "USB differential data plus. DP1-DP4 paired with DM1-DM4 support up to four downstream USB ports.", 25 VCC (power) "3.3-V supply voltage", 26 ~{EXTMEM} (in) "When E\X\T\M\E\M\ is high, the serial EEPROM interface of the device is disabled. When E\X\T\M\E\M\ is low, terminals 5 and 6 are configured as the clock and data terminals of the serial EEPROM interface, respectively.", 27 TSTPLL/48MCLK (in) "Test/48-MHz clock input. TSTPLL/48MCLK is used as a test terminal during production testing. This terminal must be tied to ground for normal 6-MHz operation. If 48-MHz input clock is desired, a 48-MHz clock source (no (See Datasheet)", 28 GND (power) "GND terminals must be tied to ground for proper operation.", 29 XTAL2 "Crystal 2. XTAL2 is a 6-MHz crystal output. This terminal must be left open when using an oscillator.", 30 XTAL1 "Crystal 1. XTAL1 is a 6-MHz crystal input with 50% duty cycle. An internal PLL generates the 48-MHz and 12-MHz clocks used internally by the ASIC logic.", 31 TSTMODE (in) "Test/mode terminal. TSTMODE is used as a test terminal during production testing. This terminal must be tied to ground or 3.3-V VCC for normal 6-MHz or 48-MHz operation, respectively.", 32 SUSPND (out) "Suspend status. SUSPND is an active high output available for external logic power-down operations. During the suspend mode, SUSPND is high. SUSPND is low for normal operation.", 33 EP "Exposed Pad"

## VLF302515MT-2R2M
designator L?  ValueDisplayed: 2.2µH  (hidden comment: VLF302515MT-2R2M)
Inductor, Shielded, Ferrite, 2.2 µH, 1.57 A, 0.042 ohm, SMD; Manufacturer: TDK; Value: 2.2uH; Ind_H: 2.2E-6; Imax_A: 1.57; Irms: 2.71A @ 40C rise; Isat: 1.57A @ 30% inductance drop; DCR_ohm: 0.042; Value2: 1.57A; AEC Category: Q200; SymbolVersion: 2008-07-23; CompType: Inductor; PartNumber: VLF302515MT-2R2M; Value1: 0.042 ohm; Technology: Shielded; MountType: SMT; Material: Ferrite; PackageReference: IND_3x1.5x3mm; Published: 2008-06-26; Publisher: Texas Instruments; LatestRevisionDate: 2016-04-14; ComponentLink1Description: Datasheet link; ComponentLink1URL: http://product.tdk.com/inductor/ind/en/documents/inductor_commercial_power_vlf_en.pdf; RoHS: Y; Supplier 1: Digi-Key; Supplier Part Number 1: 445-9630-1-ND; AEC Qualified: ?
signal-integrity model Inductor
simulation model Inductor
footprint VLF302515MT
pins: 1, 2